# EAGLE library part TERMINAL-BLOCK-2.54MM-7PINS (library Terminal Block 7 Pins)
Terminal Block 2.54mm 7 Pins Pins: 7
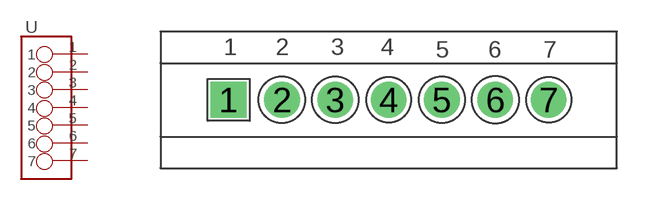
[diagram p0: symbol with the pads of TERMINAL-BLOCK-2.54MM-7PINS; footprint TERMINAL-BLOCK-2.54MM-7PINS]

Designator prefix -

## TERMINAL-BLOCK-2.54MM-7PINS  [TERMINAL-BLOCK-2.54MM-7PINS]
1  1
2  2
3  3
4  4
5  5
6  6
7  7

## Footprint TERMINAL-BLOCK-2.54MM-7PINS (pad centres in mm)
drill 1.1 pad 1.7 square: 1 0,0
drill 1.1 pad 1.7: 2 2.54,0; 3 5.08,0; 4 7.62,0; 5 10.16,0; 6 12.7,0; 7 15.24,0